# EAGLE library part SN74LVC2G02 (library KwanSystems)
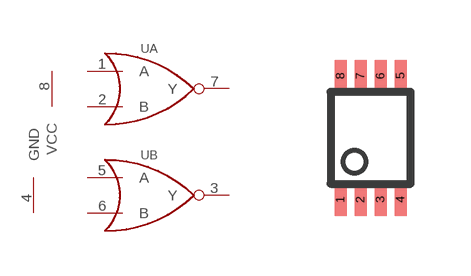
[diagram p5: symbol with the pads of DCU_8; footprint DCU_8]

Designator prefix U; gates A=NOR B=NOR PWR=PWR

## SN74LVC2G02  [DCU_8]
1  A:A
2  A:B
3  B:Y
4  PWR:GND
5  B:A
6  B:B
7  A:Y
8  PWR:VCC

## Footprint DCU_8 (pad centres in mm)
smd 0.3 x 0.8: 1 -0.75,-1.55; 2 -0.25,-1.55; 3 0.25,-1.55; 4 0.75,-1.55; 5 0.75,1.55; 6 0.25,1.55; 7 -0.25,1.55; 8 -0.75,1.55